# Altium footprint library TBA2-0513.PcbLib: 1 footprints
Each footprint in its own frame and in the unit in brackets; x right, y up, seen from the top. Pads: shape width x height; smd on the part's side, far side on the other; paste and mask are expansions set on the pad; w line width, h text height; cw(c..) or ccw(c..) is an arc to the next point about the centre after c.
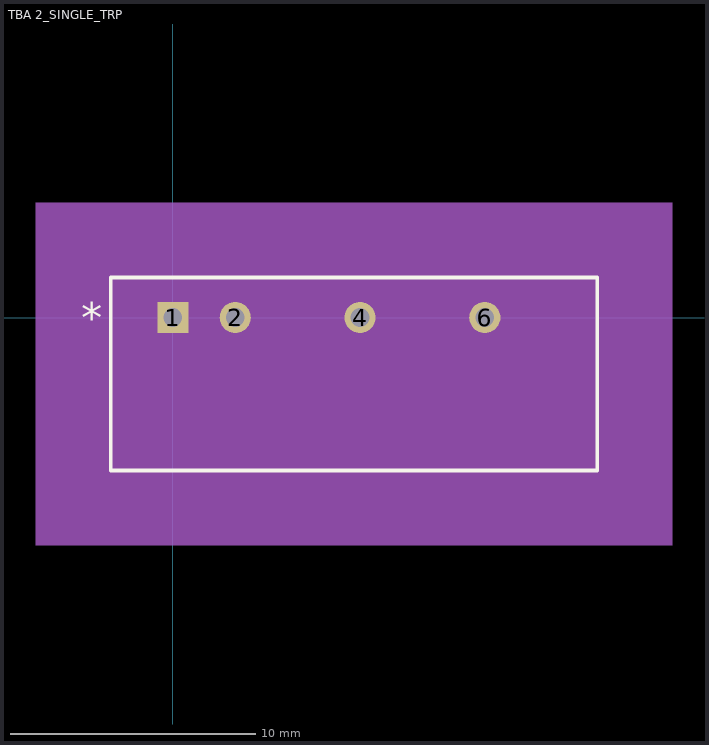
[diagram p0: the footprint, top view; thin cyan lines are the x and y axes]

## TBA 2_SINGLE_TRP [mil]
pads (4):
  rect 50x50 hole 30 mask+0: 1(0,0)
  round 50 hole 30 mask+0: 2(100,0) 4(300,0) 6(500,0)
Top Overlay:
  lines w6: -99.65,-245.05 680.35,-245.05 680.35,63.95 -99.65,63.95 -99.65,-245.05
  text "*" at -147.15,-25 h50
Mechanical 5:
  region: 800.35,-365.05 -219.65,-365.05 -219.65,183.95 800.35,183.95
Mechanical 13:
  lines w1: -94.65,-240.05 675.35,-240.05 675.35,58.95 -94.65,58.95 -94.65,-240.05
  text "*" at -97.15,-25 h50
Mechanical 15:
  region: 685.35,-250.05 -104.65,-250.05 -104.65,68.95 685.35,68.95
  lines w6: -104.65,-250.05 -104.65,68.95 685.35,68.95 685.35,-250.05 -104.65,-250.05
3D body: height 10, standoff 0, extent 0,0 10,10
3D body "TBA2_SINGLE_TRP.step": height 402.01, standoff -180, extent -85,-240 685,58.98